# Altium schematic symbol library Terminal Block.SchLib: 24 symbols
Pins are listed as number, name and electrical type; pins without a type are passive.

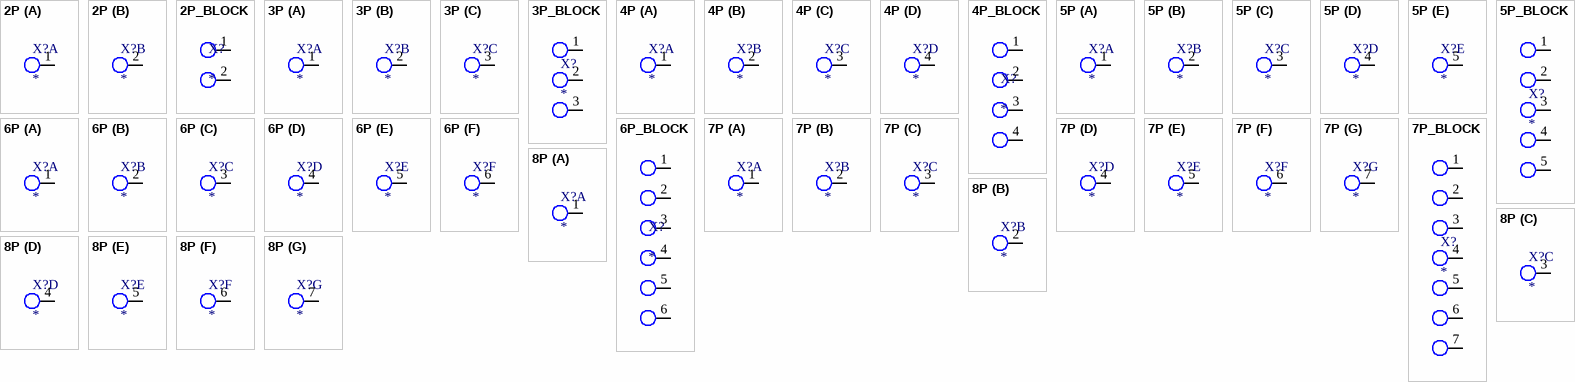
[diagram p0: symbols 2P to 8P]

## 2P
designator X?
footprint 2P
footprint 2P_L
part A pins: 1 KL
part B pins: 2 KL

## 2P_BLOCK
designator X?
footprint 2P
footprint 2P_L
pins: 1 KL, 2 KL

## 3P
designator X?
footprint 3P
footprint 3P_L
part A pins: 1 KL
part B pins: 2 KL
part C pins: 3 KL

## 3P_BLOCK
designator X?
footprint 3P
footprint 3P_L
pins: 1 KL, 2 KL, 3 KL

## 4P
designator X?
footprint 4P
footprint 4P_L
part A pins: 1 KL
part B pins: 2 KL
part C pins: 3 KL
part D pins: 4 KL

## 4P_BLOCK
designator X?
footprint 4P
footprint 4P_L
pins: 1 KL, 2 KL, 3 KL, 4 KL

## 5P
designator X?
footprint 5P
footprint 5P_L
part A pins: 1 KL
part B pins: 2 KL
part C pins: 3 KL
part D pins: 4 KL
part E pins: 5 KL

## 5P_BLOCK
designator X?
footprint 5P_L
footprint 5P
pins: 1 KL, 2 KL, 3 KL, 4 KL, 5 KL

## 6P
designator X?
footprint 6P
footprint 6P_L
part A pins: 1 KL
part B pins: 2 KL
part C pins: 3 KL
part D pins: 4 KL
part E pins: 5 KL
part F pins: 6 KL

## 6P_BLOCK
designator X?
footprint 6P_L
footprint 6P
pins: 1 KL, 2 KL, 3 KL, 4 KL, 5 KL, 6 KL

## 7P
designator X?
footprint 7P
footprint 7P_L
part A pins: 1 KL
part B pins: 2 KL
part C pins: 3 KL
part D pins: 4 KL
part E pins: 5 KL
part F pins: 6 KL
part G pins: 7 KL

## 7P_BLOCK
designator X?
footprint 7P_L
footprint 7P
pins: 1 KL, 2 KL, 3 KL, 4 KL, 5 KL, 6 KL, 7 KL

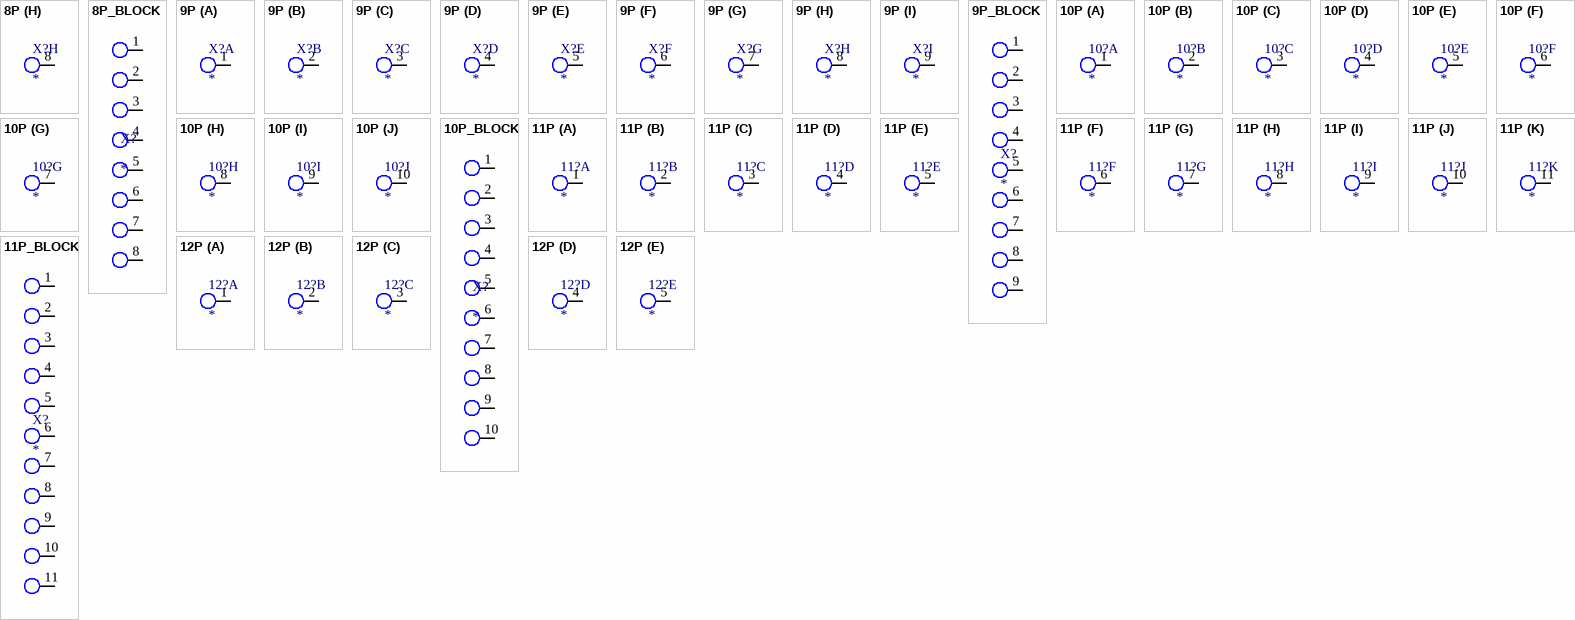
[diagram p1: symbols 8P to 12P]

## 8P
designator X?
footprint 8P
footprint 8P_L
part A pins: 1 KL
part B pins: 2 KL
part C pins: 3 KL
part D pins: 4 KL
part E pins: 5 KL
part F pins: 6 KL
part G pins: 7 KL
part H pins: 8 KL

## 8P_BLOCK
designator X?
footprint 8P
footprint 8P_L
pins: 1 KL, 2 KL, 3 KL, 4 KL, 5 KL, 6 KL, 7 KL, 8 KL

## 9P
designator X?
footprint 9P
footprint 9P_L
part A pins: 1 KL
part B pins: 2 KL
part C pins: 3 KL
part D pins: 4 KL
part E pins: 5 KL
part F pins: 6 KL
part G pins: 7 KL
part H pins: 8 KL
part I pins: 9 KL

## 9P_BLOCK
designator X?
footprint 9P
footprint 9P_L
pins: 1 KL, 2 KL, 3 KL, 4 KL, 5 KL, 6 KL, 7 KL, 8 KL, 9 KL

## 10P
designator 10?
footprint 10P
footprint 10P_L
part A pins: 1 KL
part B pins: 2 KL
part C pins: 3 KL
part D pins: 4 KL
part E pins: 5 KL
part F pins: 6 KL
part G pins: 7 KL
part H pins: 8 KL
part I pins: 9 KL
part J pins: 10 KL

## 10P_BLOCK
designator X?
footprint 10P
footprint 10P_L
pins: 1 KL, 2 KL, 3 KL, 4 KL, 5 KL, 6 KL, 7 KL, 8 KL, 9 KL, 10 KL

## 11P
designator 11?
footprint 11P
footprint 11P_L
part A pins: 1 KL
part B pins: 2 KL
part C pins: 3 KL
part D pins: 4 KL
part E pins: 5 KL
part F pins: 6 KL
part G pins: 7 KL
part H pins: 8 KL
part I pins: 9 KL
part J pins: 10 KL
part K pins: 11 KL

## 11P_BLOCK
designator X?
footprint 11P
footprint 11P_L
pins: 1 KL, 2 KL, 3 KL, 4 KL, 5 KL, 6 KL, 7 KL, 8 KL, 9 KL, 10 KL, 11 KL

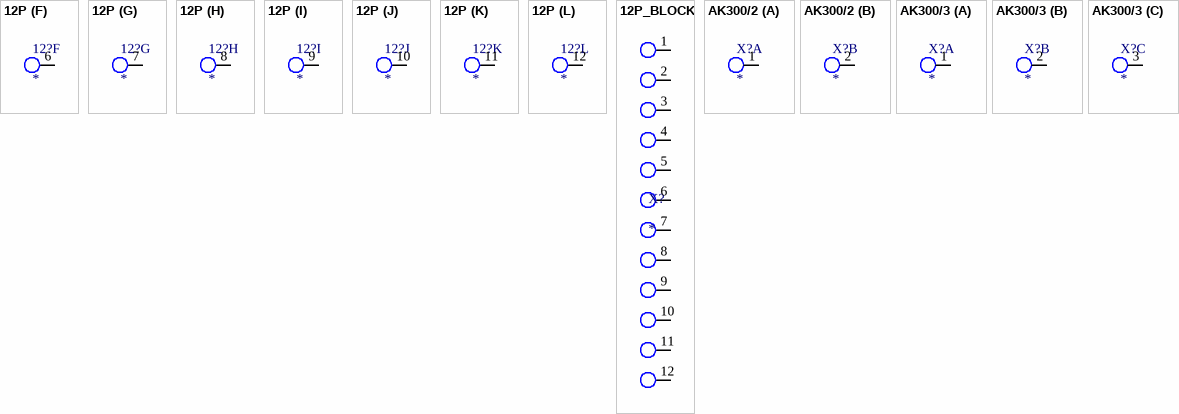
[diagram p2: symbols 12P to AK300/3]

## 12P
designator 12?
footprint 12P
footprint 12P_L
part A pins: 1 KL
part B pins: 2 KL
part C pins: 3 KL
part D pins: 4 KL
part E pins: 5 KL
part F pins: 6 KL
part G pins: 7 KL
part H pins: 8 KL
part I pins: 9 KL
part J pins: 10 KL
part K pins: 11 KL
part L pins: 12 KL

## 12P_BLOCK
designator X?
footprint 12P
footprint 12P_L
pins: 1 KL, 2 KL, 3 KL, 4 KL, 5 KL, 6 KL, 7 KL, 8 KL, 9 KL, 10 KL, 11 KL, 12 KL

## AK300/2
designator X?
MP: AK300/3; MF: Altech; Package: None; Availability: Unavailable; SnapEDA_Link: https://www.snapeda.com/parts/AK300/3/Altech/view-part/2748485/?ref=snap; Check_prices: https://www.snapeda.com/parts/AK300/3/Altech/view-part/2748485/?ref=eda; Value: *; Price: None
footprint AK300/2
part A pins: 1 KL
part B pins: 2 KL

## AK300/3
designator X?
MP: AK300/3; MF: Altech; Package: None; Availability: Unavailable; SnapEDA_Link: https://www.snapeda.com/parts/AK300/3/Altech/view-part/2748485/?ref=snap; Check_prices: https://www.snapeda.com/parts/AK300/3/Altech/view-part/2748485/?ref=eda; Value: *; Price: None
footprint AK300/3
part A pins: 1 KL
part B pins: 2 KL
part C pins: 3 KL